# Altium footprint library CustomFootprints.PcbLib: 39 footprints (part 1 of 3)
Each footprint in its own frame and in the unit in brackets; x right, y up, seen from the top. Pads: shape width x height; smd on the part's side, far side on the other; paste and mask are expansions set on the pad; w line width, h text height; cw(c..) or ccw(c..) is an arc to the next point about the centre after c.
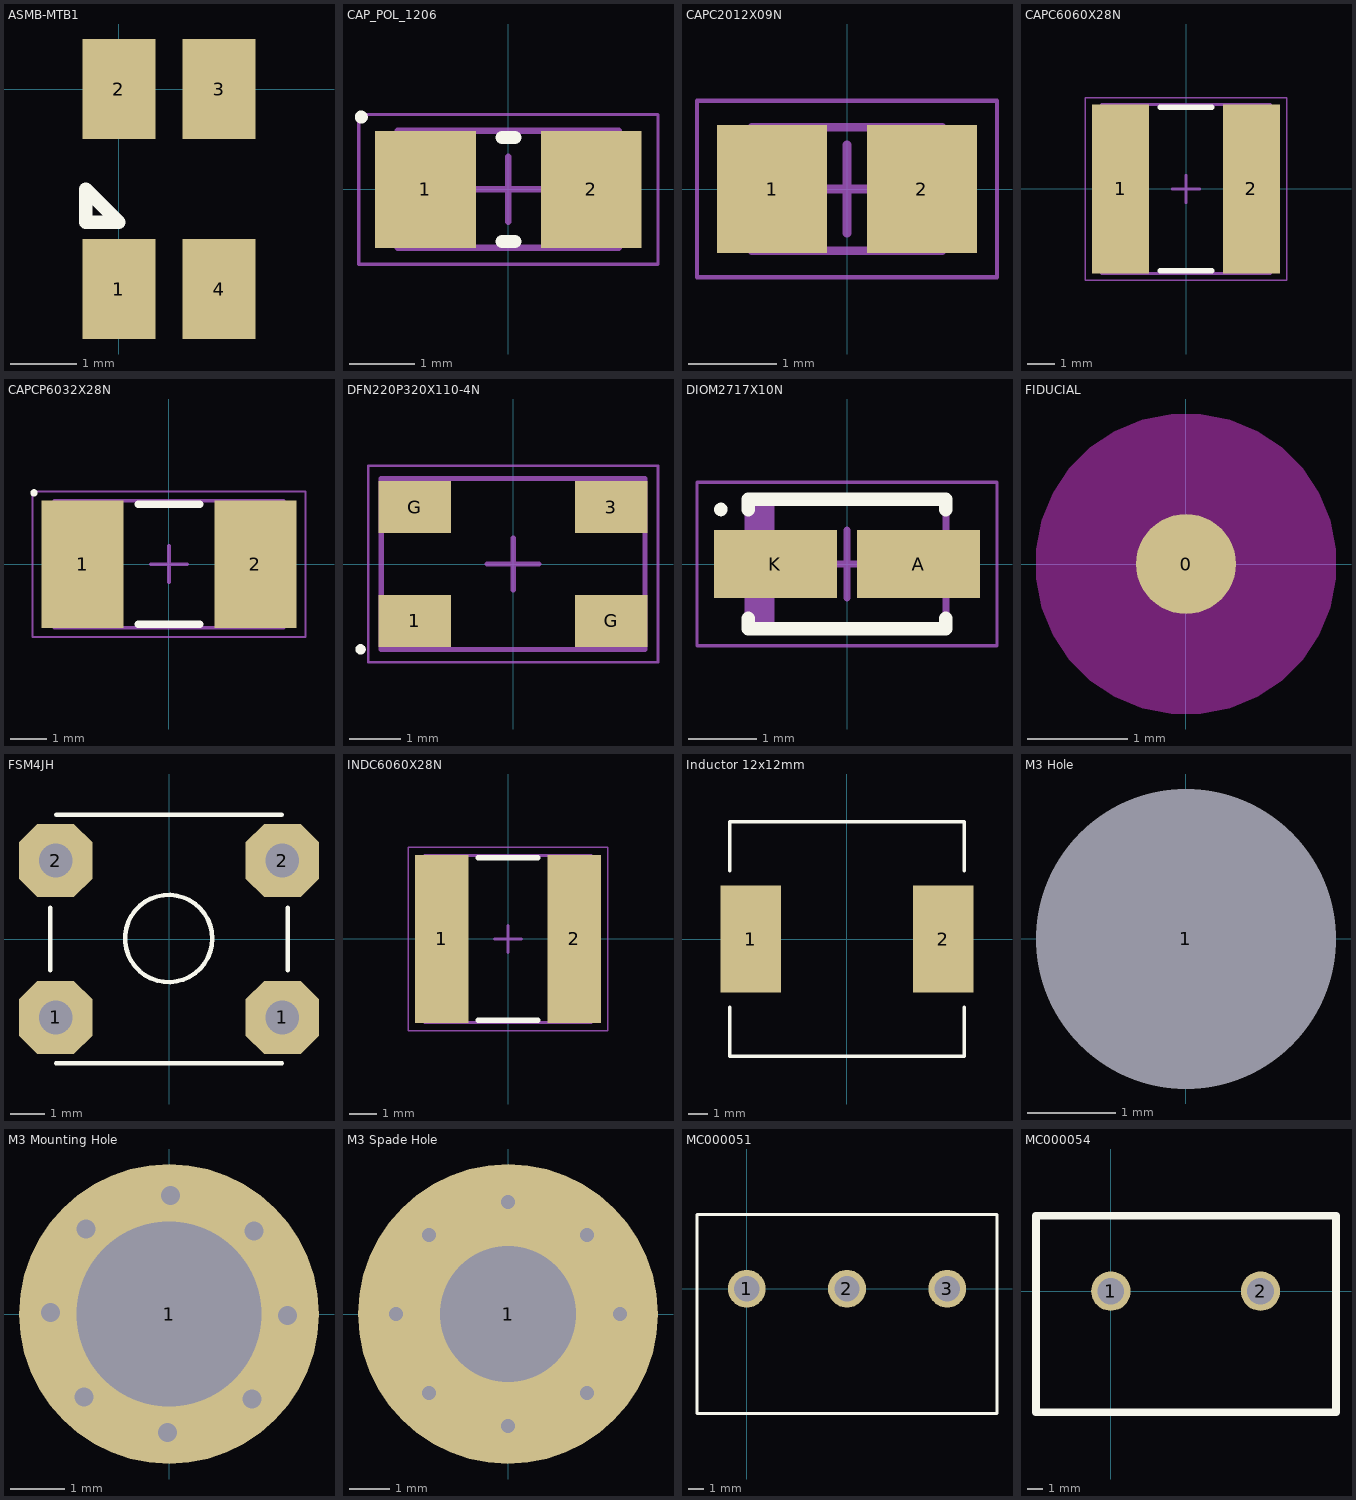
[diagram p0: the footprints below, top view; thin cyan lines are the x and y axes]

## ASMB-MTB1 [mm]
pads (4):
  rect 1.1x1.5 smd: 1(0,-3) 2(0,0) 3(1.5,0) 4(1.5,-3)
Top Overlay:
  lines w0.2: -0.5,-2 -0.5,-1.5 0,-2 ; -0.5,-2 0,-2 ; -0.5,-2 0,-2

## CAP_POL_1206 [mm] "Chip Capacitor, 2-Leads, Body 3.20x1.60mm, IPC Medium Density"
height 1.8
pads (2):
  rect 1.55x1.8 smd: 1(-1.275,0) 2(1.275,0)
Top Overlay:
  circle w0.1: c-2.262,1.112 r0.05
  lines w0.2: -0.1,-0.8 0.1,-0.8 ; -0.1,0.8 0.1,0.8
Mechanical 13:
  lines w0.1: -1.7,-0.9 -1.7,0.9 1.7,0.9 1.7,-0.9 -1.7,-0.9
Mechanical 15:
  lines w0.05: -2.3,-1.15 -2.3,1.15 2.3,1.15 2.3,-1.15 -2.3,-1.15
  lines w0.1: -0.5,0 0.5,0 ; 0,-0.5 0,0.5
3D body: height 1.8, standoff 0, extent -0.9,-0.9 0.9,0.9
3D body: height 1.8, standoff 0, extent -1.7,-0.9 -0.9,0.9
3D body: height 1.8, standoff 0, extent 0.9,-0.9 1.7,0.9

## CAPC2012X09N [mm] "Chip Capacitor, 2-Leads, Body 2.00x1.25mm, IPC Medium Density"
height 0.95
pads (2):
  rect 1.25x1.45 smd: 1(-0.85,0) 2(0.85,0)
Mechanical 13:
  lines w0.1: -1.075,-0.7 -1.075,0.7 1.075,0.7 1.075,-0.7 -1.075,-0.7
Mechanical 15:
  lines w0.05: -1.7,-1 -1.7,1 1.7,1 1.7,-1 -1.7,-1
  lines w0.1: -0.5,0 0.5,0 ; 0,-0.5 0,0.5
3D body: height 0.95, standoff 0, extent -0.625,-0.7 0.625,0.7
3D body: height 0.95, standoff 0, extent -1.075,-0.7 -0.625,0.7
3D body: height 0.95, standoff 0, extent 0.625,-0.7 1.075,0.7

## CAPC6060X28N [mm] "Chip Capacitor, 2-Leads, Body 6.00x6.00mm, IPC Medium Density"
height 2.8
pads (2):
  rect 2.1x6.2 smd: 1(-2.4,0) 2(2.4,0)
Top Overlay:
  lines w0.2: -0.95,-3 0.95,-3 ; -0.95,3 0.95,3
Mechanical 13:
  lines w0.1: -3.1,-3.1 3.1,-3.1 3.1,3.1 -3.1,3.1 -3.1,-3.1
Mechanical 15:
  lines w0.05: -3.7,-3.35 3.7,-3.35 3.7,3.35 -3.7,3.35 -3.7,-3.35
  lines w0.1: -0.5,0 0.5,0 ; 0,-0.5 0,0.5
3D body: height 2.8, standoff 0, extent 1.75,-3.1 3.1,3.1
3D body: height 2.8, standoff 0, extent -3.1,-3.1 -1.75,3.1
3D body: height 2.8, standoff 0, extent -1.75,-3.1 1.75,3.1

## CAPCP6032X28N [mm] "Chip Capacitor, 2-Leads, Body 6.00x3.20mm, IPC Medium Density"
height 2.8
pads (2):
  rect 2.25x3.5 smd: 1(-2.375,0) 2(2.375,0)
Top Overlay:
  circle w0.1: c-3.712,1.962 r0.05
  lines w0.2: -0.85,-1.65 0.85,-1.65 ; -0.85,1.65 0.85,1.65
Mechanical 13:
  lines w0.1: -3.15,-1.75 -3.15,1.75 3.15,1.75 3.15,-1.75 -3.15,-1.75
Mechanical 15:
  lines w0.05: -3.75,-2 -3.75,2 3.75,2 3.75,-2 -3.75,-2
  lines w0.1: -0.5,0 0.5,0 ; 0,-0.5 0,0.5
3D body: height 2.8, standoff 0, extent -1.85,-1.75 1.85,1.75
3D body: height 2.8, standoff 0, extent -3.15,-1.75 -1.85,1.75
3D body: height 2.8, standoff 0, extent 1.85,-1.75 3.15,1.75

## DFN220P320X110-4N [mm] "DFN, 4-Leads, Body 5.00x3.20mm, Pitch 2.20mm, IPC Medium Density"
height 1.1
pads (4):
  rect 1.4x1 smd: 1(-1.9,-1.1) 3(1.9,1.1) G(-1.9,1.1) G(1.9,-1.1)
Top Overlay:
  circle w0.1: c-2.95,-1.65 r0.05
Mechanical 13:
  lines w0.1: -2.55,-1.65 -2.55,1.65 2.55,1.65 2.55,-1.65 -2.55,-1.65
Mechanical 15:
  lines w0.05: -2.8,-1.9 -2.8,1.9 2.8,1.9 2.8,-1.9 -2.8,-1.9
  lines w0.1: -0.5,0 0.5,0 ; 0,-0.5 0,0.5
3D body: height 1.1, standoff 0, extent -2.55,-1.65 2.55,1.65

## DIOM2717X10N [mm] "Molded Diode, 2-Leads, Body 2.70x1.65mm, IPC Medium Density"
height 1
pads (2):
  rect 1.8x1 smd: A(1.05,0) K(-1.05,0)
Top Overlay:
  circle w0.1: c-1.85,0.8 r0.05
  lines w0.2: -1.45,-0.8 -1.45,-0.95 1.45,-0.95 1.45,-0.8 ; -1.45,0.8 -1.45,0.95 1.45,0.95 1.45,0.8
Mechanical 13:
  rectangle: -1.45,-0.9 -1.06,0.9
  lines w0.1: -1.45,-0.9 1.45,-0.9 1.45,0.9 -1.45,0.9 -1.45,-0.9
Mechanical 15:
  lines w0.05: -2.2,-1.2 2.2,-1.2 2.2,1.2 -2.2,1.2 -2.2,-1.2
  lines w0.1: -0.5,0 0.5,0 ; 0,-0.5 0,0.5
3D body: height 1, standoff 0, extent -1.45,-0.9 1.45,0.9

## FIDUCIAL [mm] "1mm fiducial with 3mm keepout"
pads (1):
  round 1 smd paste-1 mask+0.5: 0(0,0)
Keep-Out Layer:
  region: 0,-1.5 -0.148,-1.5 -0.438,-1.442 -0.711,-1.329 -0.956,-1.165 -1.165,-0.956 -1.329,-0.711 -1.442,-0.438 -1.5,-0.148 -1.5,0 -1.5,0.148 -1.442,0.438 -1.329,0.711 -1.165,0.956 -0.956,1.165 -0.711,1.329 -0.438,1.442 -0.148,1.5 0,1.5 0.148,1.5 0.438,1.442 0.711,1.329 0.956,1.165 1.165,0.956 1.329,0.711 1.442,0.438 1.5,0.148 1.5,0 1.5,-0.148 1.442,-0.438 1.329,-0.711 1.165,-0.956 0.956,-1.165 0.711,-1.329 0.438,-1.442 0.148,-1.5

## FSM4JH [mm] "SWITCH, SPNO, 0.05A"
height 5
pads (4):
  oct 2.1x2.1 hole 0.965: 1(-3.25,-2.25) 1(3.25,-2.25) 2(-3.25,2.25) 2(3.25,2.25)
Top Overlay:
  circle w0.127: c-0.011,0.014 r1.25
  lines w0.127: -3.4,-0.9 -3.4,0.9 ; -3.239,-3.556 3.24,-3.556 ; -3.236,3.556 3.236,3.556 ; 3.4,-0.9 3.4,0.9

## INDC6060X28N [mm] "Chip Inductor, 2-Leads, Body 6.00x6.00mm, IPC Medium Density"
height 2.8
pads (2):
  rect 1.98x6.22 smd: 1(-2.46,0) 2(2.46,0)
Top Overlay:
  lines w0.2: -1.1,-3.01 1.1,-3.01 ; -1.1,3.01 1.1,3.01
Mechanical 13:
  lines w0.1: -3.1,-3.1 -3.1,3.1 3.1,3.1 3.1,-3.1 -3.1,-3.1
Mechanical 15:
  lines w0.05: -3.7,-3.4 -3.7,3.4 3.7,3.4 3.7,-3.4 -3.7,-3.4
  lines w0.1: -0.5,0 0.5,0 ; 0,-0.5 0,0.5
3D body: height 2.8, standoff 0, extent -1.75,-3.1 1.75,3.1
3D body: height 2.8, standoff 0, extent -3.1,-3.1 -1.75,3.1
3D body: height 2.8, standoff 0, extent 1.75,-3.1 3.1,3.1

## Inductor 12x12mm [mm]
pads (2):
  rect 3.1x5.5 smd: 1(-4.925,0) 2(4.925,0)
Top Overlay:
  lines w0.2: -6,-3.5 -6,-6 6,-6 6,-3.5 ; -6,3.5 -6,6 6,6 6,3.5

## M3 Hole [mm] "M3 Hole with no copper"
pads (1):
  round 3 hole 3.4 unplated: 1(0,0)

## M3 Mounting Hole [mm]
pads (1):
  round 5.5 hole 3.4: 1(0,0)
via 1.52,-1.556 diameter 0.7 hole 0.35
via -0.025,-2.175 diameter 0.7 hole 0.35
via -1.556,-1.52 diameter 0.7 hole 0.35
via -2.175,0.025 diameter 0.7 hole 0.35
via -1.52,1.556 diameter 0.7 hole 0.35
via 0.025,2.175 diameter 0.7 hole 0.35
via 1.556,1.52 diameter 0.7 hole 0.35
via 2.175,-0.025 diameter 0.7 hole 0.35

## M3 Spade Hole [mm]
pads (1):
  round 7.5 hole 3.4: 1(0,0)
via 2.8,0 diameter 0.7 hole 0.35
via 1.98,1.98 diameter 0.7 hole 0.35
via 0,2.8 diameter 0.7 hole 0.35
via -1.98,1.98 diameter 0.7 hole 0.35
via -2.8,0 diameter 0.7 hole 0.35
via -1.98,-1.98 diameter 0.7 hole 0.35
via 0,-2.8 diameter 0.7 hole 0.35
via 1.98,-1.98 diameter 0.7 hole 0.35

## MC000051 [mm] "TERMINAL BLOCK, WIRE TO BRD, 3POS, 10AWG"
height 22
pads (3):
  round 2.4 hole 1.6: 1(0,0) 2(6.35,0) 3(12.7,0)
Top Overlay:
  lines w0.2: -3.15,-7.9 15.85,-7.9 15.85,4.7 -3.15,4.7 -3.15,-7.9

## MC000054 [mm] "MULTICOMP  Wire-To-Board Terminal Block, 2, 600 V, 30 A, 24 AWG, 10 AWG"
height 22
pads (2):
  round 2.5 hole 1.7: 1(0,0) 2(9.52,0)
Top Overlay:
  lines w0.5: -4.76,-7.7 14.32,-7.7 14.32,4.8 -4.76,4.8 -4.76,-7.7